# EAGLE library part LTC6244HVIDDPBF (library custom_dzmitry)
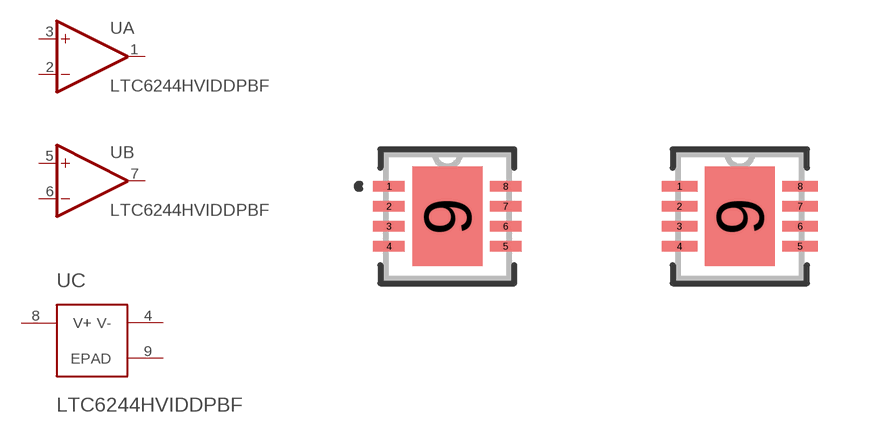
[diagram p8: symbol with the pads of DFN-8_DD_LIT; footprints DFN-8_DD_LIT, DFN-8_DD_LIT-M]

Designator prefix U; gates A=OPAMP B=OPAMP C=LTC6244POWER

## LTC6244HVIDDPBF (BUILT_BY: EMA_UL_Team; MANUFACTURER_PART_NUMBER: LTC6244HVIDD#PBF; SOURCELIBRARY: LinearTech_2016-05-13_1; VENDOR: Linear Technology)  [DFN-8_DD_LIT]
1  A:OUT  out
2  A:-IN  in
3  A:+IN  in
4  C:V-  pwr
5  B:+IN  in
6  B:-IN  in
7  B:OUT  out
8  C:V+  pwr
9  C:EPAD  pwr

## LTC6244HVIDDPBFDFN-8_DD_LIT-M (BUILT_BY: EMA_UL_Team; MANUFACTURER_PART_NUMBER: LTC6244HVIDD#PBF; SOURCELIBRARY: LinearTech_2016-05-13_1; VENDOR: Linear Technology)  [DFN-8_DD_LIT-M]
Pads as for DFN-8_DD_LIT

## LTC6244HVIDDPBFDFN-8_DD_LIT-L (BUILT_BY: EMA_UL_Team; MANUFACTURER_PART_NUMBER: LTC6244HVIDD#PBF; SOURCELIBRARY: LinearTech_2016-05-13_1; VENDOR: Linear Technology)  [DFN-8_DD_LIT-L]
Pads as for DFN-8_DD_LIT

## Footprint DFN-8_DD_LIT (pad centres in mm)
smd 0.787 x 0.254: 1 -1.46,0.75; 2 -1.46,0.25; 3 -1.46,-0.25; 4 -1.46,-0.75; 5 1.46,-0.75; 6 1.46,-0.25; 7 1.46,0.25; 8 1.46,0.75
smd 1.753 x 2.489: 9 0,0

## Footprint DFN-8_DD_LIT-M (pad centres in mm)
smd 0.889 x 0.254: 1 -1.511,0.75; 2 -1.511,0.25; 3 -1.511,-0.25; 4 -1.511,-0.75; 5 1.511,-0.75; 6 1.511,-0.25; 7 1.511,0.25; 8 1.511,0.75
smd 1.753 x 2.489: 9 0,0

## Footprint DFN-8_DD_LIT-L (pad centres in mm)
smd 0.686 x 0.254: 1 -1.41,0.75; 2 -1.41,0.25; 3 -1.41,-0.25; 4 -1.41,-0.75; 5 1.41,-0.75; 6 1.41,-0.25; 7 1.41,0.25; 8 1.41,0.75
smd 1.753 x 2.489: 9 0,0